# Altium footprint library devices.PcbLib: 4 footprints
Each footprint in its own frame and in the unit in brackets; x right, y up, seen from the top. Pads: shape width x height; smd on the part's side, far side on the other; paste and mask are expansions set on the pad; w line width, h text height; cw(c..) or ccw(c..) is an arc to the next point about the centre after c.
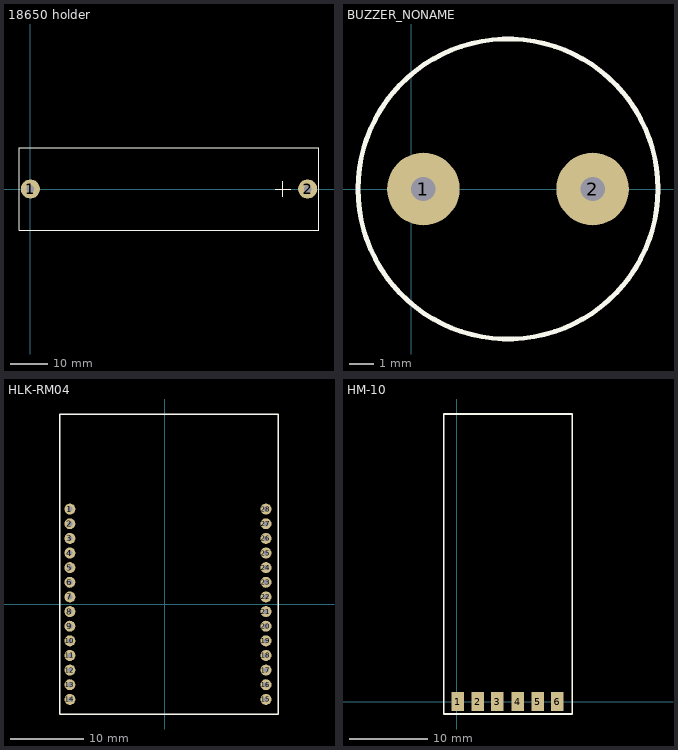
[diagram p0: the footprints below, top view; thin cyan lines are the x and y axes]

## 18650 holder [mm]
height 1.2
pads (2):
  round 5 hole 2: 1(0,0) 2(73,0)
Top Overlay:
  lines w0.2: -3,-10.9 -3,10.9 76,10.9 76,-10.9 -3,-10.9
  lines w0.254: 64.5,0 68.5,0 ; 66.5,-2 66.5,2
3D body "BK-18650-PC2.stp": height 21.41, standoff -3.3, extent -1.981,-10.49 74.981,10.49

## BUZZER_NONAME [mm]
height 1.2
pads (2):
  round 3 hole 1: 1(0.5,0) 2(7.5,0)
Top Overlay:
  circle w0.2: c4,0 r6.2
3D body "Buzzer.step": height 8.5, standoff -5.5, extent -2,-6 10,6

## HLK-RM04 [mm]
height 1.2
pads (28):
  round 1.5 hole 0.7: 1(-13,13) 2(-13,11) 3(-13,9) 4(-13,7) 5(-13,5) 6(-13,3) 7(-13,1) 8(-13,-1) 9(-13,-3) 10(-13,-5) 11(-13,-7) 12(-13,-9) 13(-13,-11) 14(-13,-13) 15(13.8,-13) 16(13.8,-11) 17(13.8,-9) 18(13.8,-7) 19(13.8,-5) 20(13.8,-3) 21(13.8,-1) 22(13.8,1) 23(13.8,3) 24(13.8,5) 25(13.8,7) 26(13.8,9) 27(13.8,11) 28(13.8,13)
Top Overlay:
  lines w0.2: -14.4,-15 15.5,-15 15.5,26 -14.4,26 -14.4,-15
3D body "User Library-HLK-RM04.step": height 8.82, standoff -0.95, extent -14,-14.5 15.06,25.6

## HM-10 [mm]
height 1.2
pads (6):
  rect 1.6x2.4 smd mask+0: 1(0.1,0) 2(2.64,0) 3(5.18,0) 4(7.82,0) 5(10.36,0) 6(12.9,0)
Top Overlay:
  lines w0.2: -1.7,-1.6 -1.7,36.9 14.8,36.9 14.8,-1.6 -1.7,-1.6
3D body "HM10.stp": height 3.7, standoff -0.02, extent -1.3,-1.2 14.4,36.5